# EAGLE library part RK25T11M0001 (library untitled)
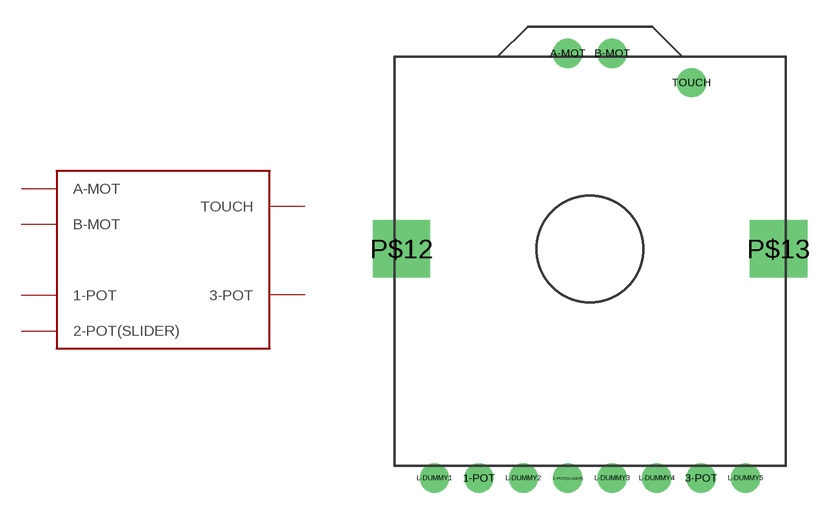
[diagram p0: symbol with the pads of RK25T11M0001; footprint RK25T11M0001]

Designator prefix -

## RK25T11M0001  [RK25T11M0001]
1-POT  1-POT
2-POT(SLIDER)  2-POT(SLIDER)
3-POT  3-POT
A-MOT  A-MOT
B-MOT  B-MOT
TOUCH  TOUCH

## Footprint RK25T11M0001 (pad centres in mm)
drill 1.1 round: 1-POT -6.25,-12.9; 2-POT(SLIDER) -1.25,-12.9; 3-POT 6.25,-12.9; A-MOT -1.25,11; B-MOT 1.25,11; L-DUMMY1 -8.75,-12.9; L-DUMMY2 -3.75,-12.9; L-DUMMY3 1.25,-12.9; L-DUMMY4 3.75,-12.9; L-DUMMY5 8.75,-12.9; TOUCH 5.7,9.35
drill 2.2 square: P$12 -10.6,0; P$13 10.6,0